# Altium footprint library RESC100X50X35L25N.PcbLib: 1 footprints
Each footprint in its own frame and in the unit in brackets; x right, y up, seen from the top. Pads: shape width x height; smd on the part's side, far side on the other; paste and mask are expansions set on the pad; w line width, h text height; cw(c..) or ccw(c..) is an arc to the next point about the centre after c.
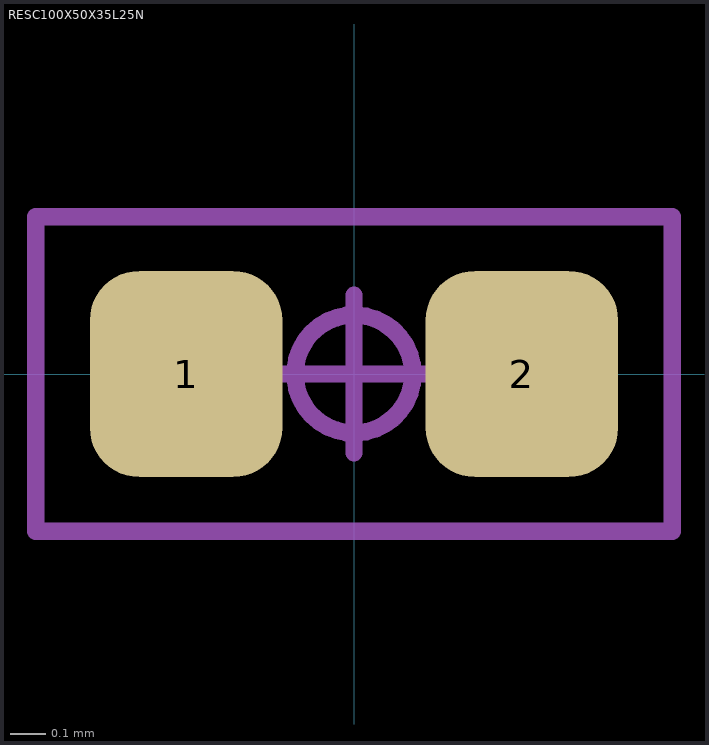
[diagram p0: the footprint, top view; thin cyan lines are the x and y axes]

## RESC100X50X35L25N [mm] "Resistor, Chip; 1.00 mm L X 0.50 mm W X 0.35 mm H body"
height 0.35
pads (2):
  rrect51% 0.55x0.59 smd mask+0.05: 1(-0.48,0) 2(0.48,0)
Mechanical 15:
  circle w0.05: c0,0 r0.169
  lines w0.05: -0.225,0 0.225,0 ; 0,-0.225 0,0.225 ; -0.91,-0.45 0.91,-0.45 0.91,0.45 -0.91,0.45 -0.91,-0.45
3D body "RESC100X50X35L25.STEP": height 0.35, standoff 0, extent -0.5,-0.25 0.5,0.25